# Altium footprint library PcbLib1.PcbLib: 7 footprints
Each footprint in its own frame and in the unit in brackets; x right, y up, seen from the top. Pads: shape width x height; smd on the part's side, far side on the other; paste and mask are expansions set on the pad; w line width, h text height; cw(c..) or ccw(c..) is an arc to the next point about the centre after c.
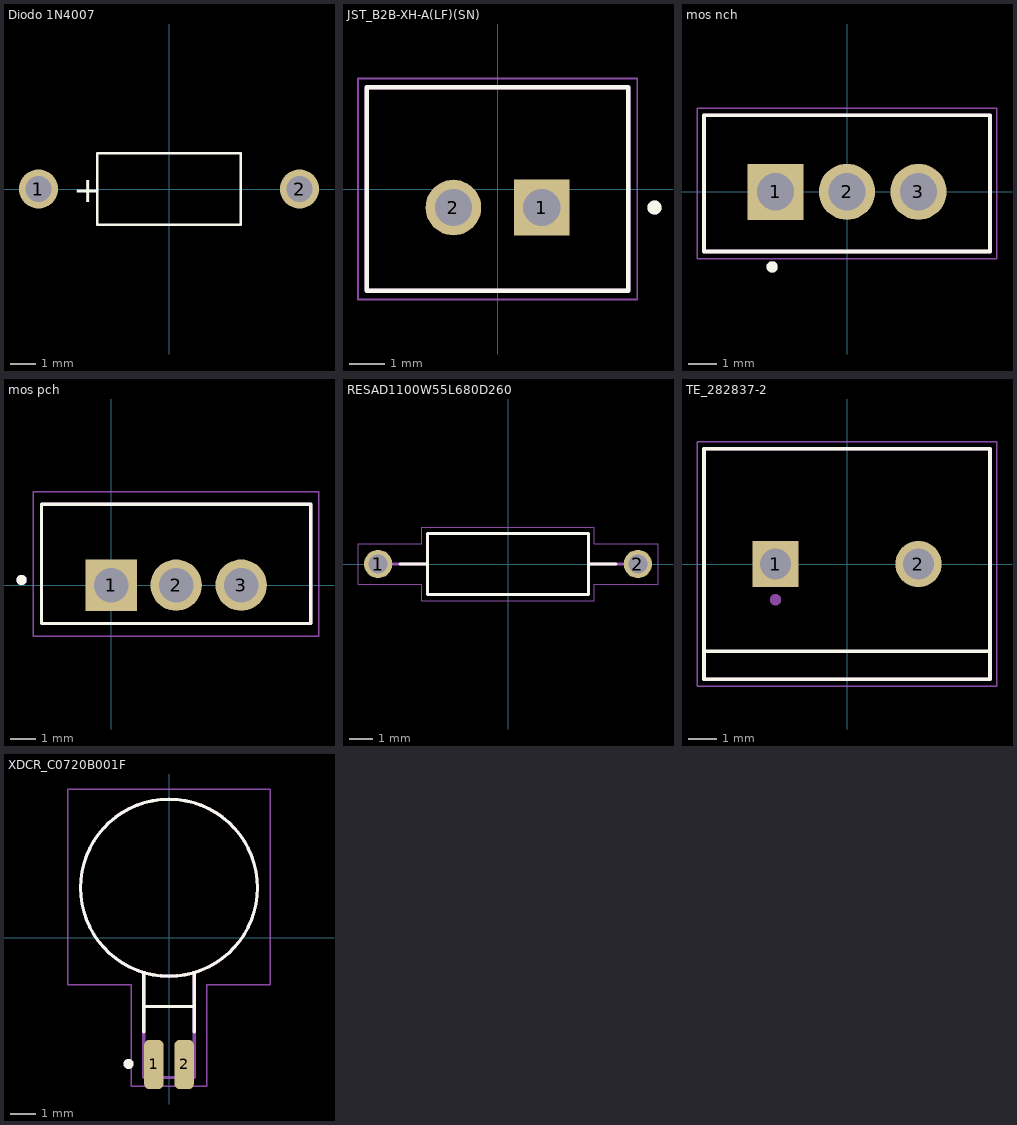
[diagram p0: the footprints below, top view; thin cyan lines are the x and y axes]

## Diodo 1N4007 [mm]
pads (2):
  round 1.524 hole 1: 1(-5.1,0) 2(5.1,0)
Top Overlay:
  lines w0.1: -2.8,-1.4 2.8,-1.4 2.8,1.4 -2.8,1.4 -2.8,-1.4
  text "+" at -3.75,-0.517 h1
Mechanical 2:
  text ".Designator" at -2.35,-0.517 h1
3D body "Diodo 1N4007.STEP": height 2.1, standoff -2.63, extent -5.533,-1.351 5.527,1.351

## JST_B2B-XH-A(LF)(SN) [mm]
height 7
pads (2):
  rect 1.575x1.575 / inner round 1.575 / far side rect 1.575x1.575 hole 1.05: 1(1.25,-0.525)
  round 1.575 hole 1.05: 2(-1.25,-0.525)
Top Overlay:
  circle w0.2: c4.44,-0.525 r0.1
  lines w0.127: -3.7,-2.875 3.7,-2.875 3.7,2.875 -3.7,2.875 -3.7,-2.875
Mechanical 13:
  circle w0.2: c4.44,-0.525 r0.1
  lines w0.127: -3.7,-2.875 3.7,-2.875 3.7,2.875 -3.7,2.875 -3.7,-2.875
Mechanical 15:
  lines w0.05: -3.95,-3.125 -3.95,3.125 3.95,3.125 3.95,-3.125 -3.95,-3.125
3D body "step_temp.STEP": height 7, standoff -3.4, extent -3.7,-2.875 3.7,2.875

## mos nch [mm]
pads (3):
  rect 1.995x1.995 hole 1.33: 1(-2.54,0)
  round 1.995 hole 1.33: 2(0,0) 3(2.54,0)
Top Overlay:
  circle w0.2: c-2.661,-2.667 r0.1
  lines w0.127: -5.08,-2.12 -5.08,2.72 5.08,2.72 5.08,-2.12 -5.08,-2.12
Mechanical 13:
  circle w0.2: c-2.661,-2.667 r0.1
  lines w0.127: -5.08,-2.12 -5.08,2.72 5.08,2.72 5.08,-2.12 -5.08,-2.12
Mechanical 15:
  lines w0.05: -5.33,-2.37 -5.33,2.968 5.33,2.968 5.33,-2.37 -5.33,-2.37
3D body "step_temp.STEP": height 19.06, standoff -10.45, extent -5.138,-2.225 5.138,2.225

## mos pch [mm]
pads (3):
  rect 2.01x2.01 hole 1.34: 1(0,0)
  round 2.01 hole 1.34: 2(2.54,0) 3(5.08,0)
Top Overlay:
  circle w0.2: c-3.5,0.2 r0.1
  lines w0.127: -2.72,-1.5 7.8,-1.5 7.8,3.16 -2.72,3.16 -2.72,-1.5
Mechanical 13:
  circle w0.2: c-3.5,0.2 r0.1
  lines w0.127: -2.72,-1.5 7.8,-1.5 7.8,3.16 -2.72,3.16 -2.72,-1.5
Mechanical 15:
  lines w0.05: -3.04,-2.005 8.12,-2.005 8.12,3.655 -3.04,3.655 -3.04,-2.005

## RESAD1100W55L680D260 [mm]
height 2.6
pads (2):
  round 1.2 hole 0.8: 1(-5.5,0) 2(5.5,0)
Top Overlay:
  lines w0.127: -4.58,0 -3.4,0 ; 4.58,0 3.4,0 ; -3.4,0 -3.4,-1.3 3.4,-1.3 3.4,0 ; -3.4,0 -3.4,1.3 3.4,1.3 3.4,0
Mechanical 13:
  lines w0.127: -4.9,0 -3.4,0 ; 4.9,0 3.4,0 ; -3.4,0 -3.4,-1.3 3.4,-1.3 3.4,0 ; -3.4,0 -3.4,1.3 3.4,1.3 3.4,0
Mechanical 15:
  lines w0.05: -6.35,-0.85 -6.35,0.85 -3.65,0.85 -3.65,1.55 3.65,1.55 3.65,0.85 6.35,0.85 6.35,-0.85 3.65,-0.85 3.65,-1.55 -3.65,-1.55 -3.65,-0.85 -6.35,-0.85
3D body "step_temp.STEP": height 2.6, standoff -25.53, extent -5.775,-1.3 5.775,1.3

## TE_282837-2 [mm]
pads (2):
  rect 1.65x1.65 / inner round 1.65 / far side rect 1.65x1.65 hole 1.1: 1(-2.54,0)
  round 1.65 hole 1.1: 2(2.54,0)
Top Overlay:
  lines w0.127: -5.08,-3.1 5.08,-3.1 ; -5.08,-3.1 -5.08,4.1 5.08,4.1 5.08,-3.1 ; -5.08,-3.1 -5.08,-4.1 5.08,-4.1 5.08,-3.1
Mechanical 13:
  circle w0.2: c-2.54,-1.27 r0.1
  lines w0.127: -5.08,-4.1 -5.08,4.1 5.08,4.1 5.08,-4.1 -5.08,-4.1
Mechanical 15:
  lines w0.05: -5.33,-4.35 -5.33,4.35 5.33,4.35 5.33,-4.35 -5.33,-4.35
3D body "step_temp.STEP": height 10, standoff -3.5, extent -5.68,-4.1 5.08,4.1

## XDCR_C0720B001F [mm]
pads (2):
  rrect50% 0.76x1.94 smd: 1(-0.6,-5.02) 2(0.6,-5.02)
Top Overlay:
  circle w0.2: c-1.6,-5 r0.1
  circle w0.127: c0,1.97 r3.5
  lines w0.127: -1,-3.725 -1,-2.73 ; -1,-1.425 -1,-2.73 ; 1,-3.725 1,-2.73 ; 1,-1.425 1,-2.73 ; -1,-2.73 1,-2.73
Mechanical 13:
  circle w0.127: c0,1.97 r3.5
  lines w0.127: -1,-2.725 1,-2.725 1,-1.425 ; -1,-1.425 -1,-5.53 1,-5.53 1,-2.73
Mechanical 15:
  lines w0.05: -4,-1.875 -4,5.875 4,5.875 4,-1.875 1.5,-1.875 1.5,-5.875 -1.5,-5.875 -1.5,-1.875 -4,-1.875